# Altium schematic symbol library MOV.Schlib: 1 symbol
Pins are listed as number, name and electrical type; pins without a type are passive.

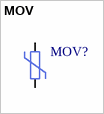
[diagram p0: symbol MOV]

## MOV
designator MOV?  (value not drawn)
Varistor
pins: 1, 2
2 alternate drawings of the same symbol